# Altium footprint library SMD Library.PcbLib: 53 footprints (part 2 of 4)
Each footprint in its own frame and in the unit in brackets; x right, y up, seen from the top. Pads: shape width x height; smd on the part's side, far side on the other; paste and mask are expansions set on the pad; w line width, h text height; cw(c..) or ccw(c..) is an arc to the next point about the centre after c.
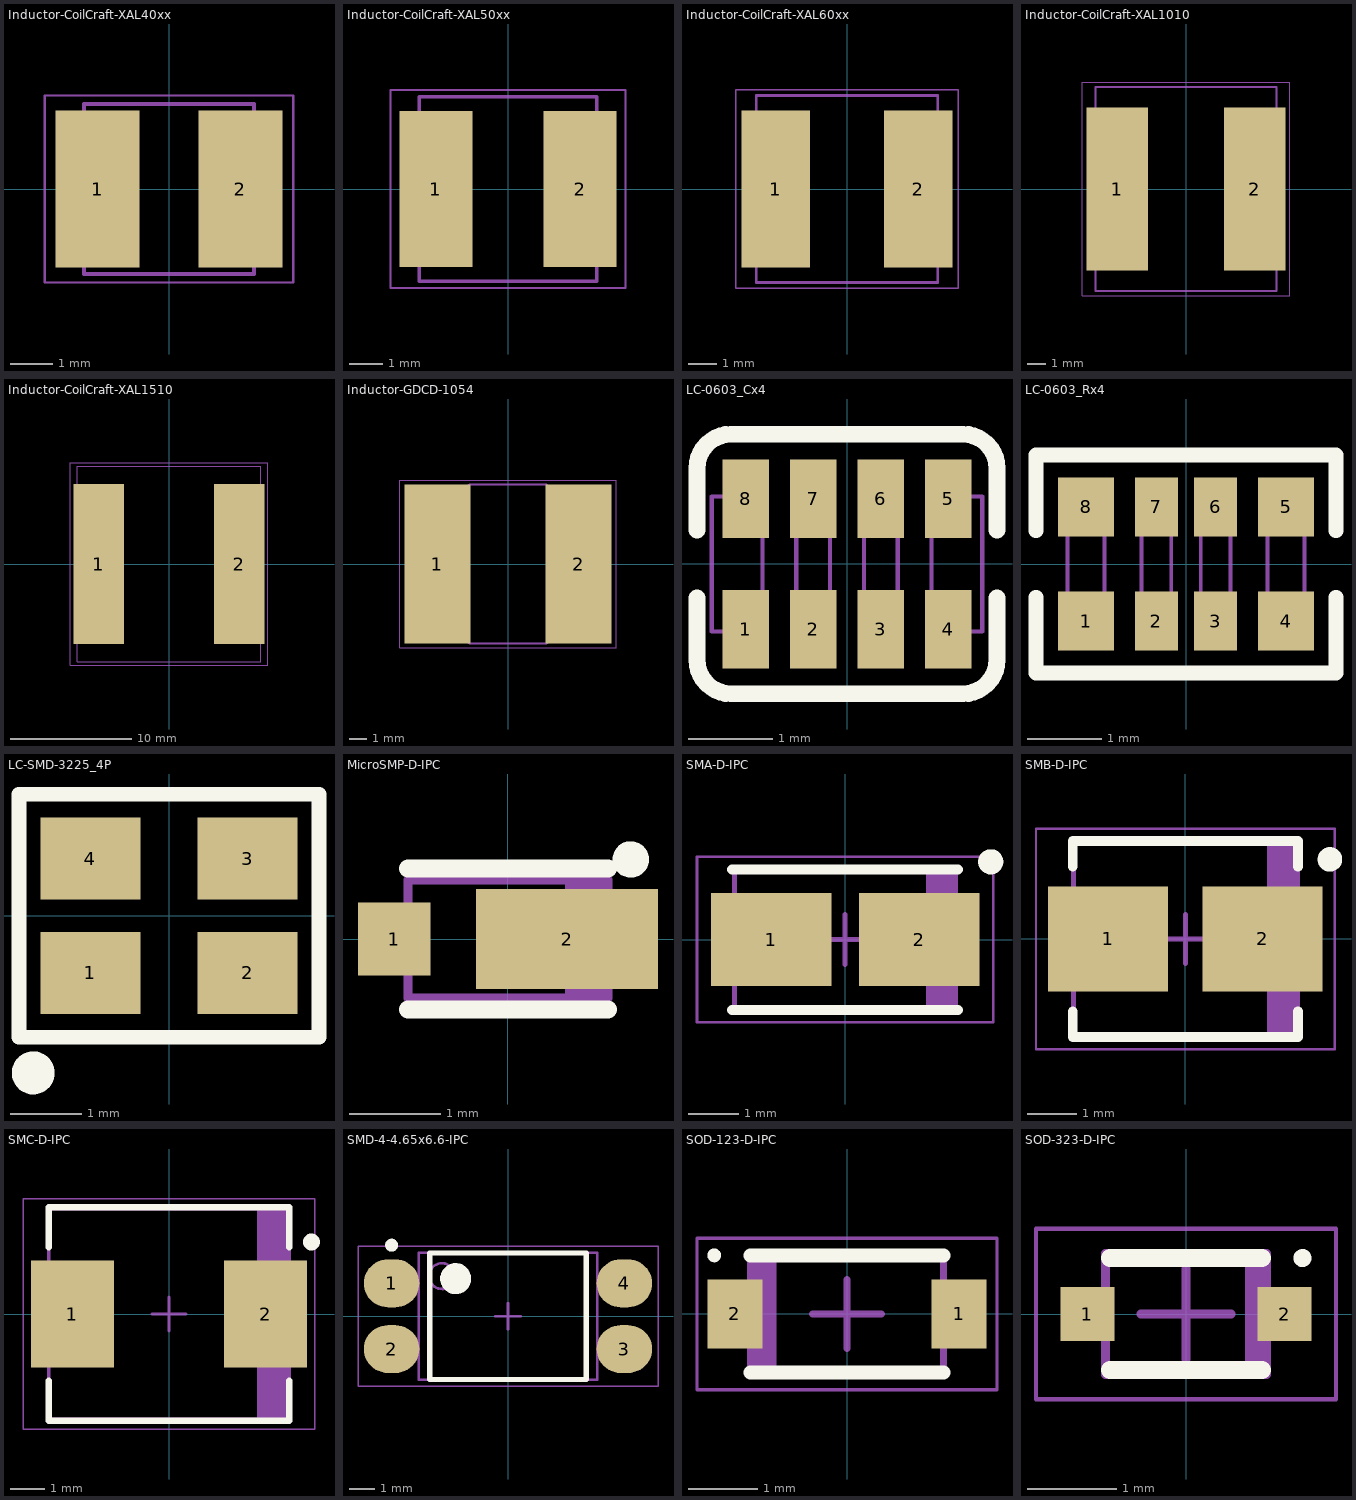
[diagram p1: the footprints below, top view; thin cyan lines are the x and y axes]

## Inductor-CoilCraft-XAL40xx [mm] "COILCRAFT - XAL40xx"
height 4.1
pads (2):
  rect 1.98x3.7 smd: 1(-1.68,0) 2(1.68,0)
Mechanical 13:
  lines w0.1: -2,-2 -2,2 2,2 2,-2 -2,-2
Mechanical 15:
  lines w0.05: -2.925,-2.2 -2.925,2.2 2.925,2.2 2.925,-2.2 -2.925,-2.2
3D body: height 4.1, standoff 0, extent -2,-2 2,2

## Inductor-CoilCraft-XAL50xx [mm] "COILCRAFT - XAL50xx"
height 5.1
pads (2):
  rect 2.18x4.64 smd: 1(-2.15,0) 2(2.15,0)
Mechanical 13:
  lines w0.1: -2.65,-2.75 -2.65,2.75 2.65,2.75 2.65,-2.75 -2.65,-2.75
Mechanical 15:
  lines w0.05: -3.5,-2.95 -3.5,2.95 3.5,2.95 3.5,-2.95 -3.5,-2.95
3D body: height 5.1, standoff 0, extent -2.65,-2.75 2.65,2.75

## Inductor-CoilCraft-XAL60xx [mm] "COILCRAFT - XAL60xx"
height 6.1
pads (2):
  rect 2.4x5.5 smd: 1(-2.5,0) 2(2.5,0)
Mechanical 13:
  lines w0.1: -3.175,-3.275 -3.175,3.275 3.175,3.275 3.175,-3.275 -3.175,-3.275
Mechanical 15:
  lines w0.05: -3.9,-3.475 3.9,-3.475 3.9,3.475 -3.9,3.475 -3.9,-3.475
3D body: height 6.1, standoff 0, extent -3.175,-3.275 3.175,3.275

## Inductor-CoilCraft-XAL1010 [mm] "COILCRAFT - XAL1010"
height 10
pads (2):
  rect 3.4x9 smd: 1(-3.8,0) 2(3.8,0)
Mechanical 13:
  lines w0.1: -5,-5.65 5,-5.65 5,5.65 -5,5.65 -5,-5.65
Mechanical 15:
  lines w0.05: -5.75,-5.9 -5.75,5.9 5.75,5.9 5.75,-5.9 -5.75,-5.9
3D body: height 6.1, standoff 0, extent -5,-5.65 5,5.65

## Inductor-CoilCraft-XAL1510 [mm] "COILCRAFT - XAL1510"
height 11
pads (2):
  rect 4.2x13.2 smd: 1(-5.8,0) 2(5.8,0)
Mechanical 13:
  lines w0.1: -7.6,-8.1 -7.6,8.1 7.6,8.1 7.6,-8.1 -7.6,-8.1
Mechanical 15:
  lines w0.05: -8.15,-8.35 8.15,-8.35 8.15,8.35 -8.15,8.35 -8.15,-8.35
3D body: height 11, standoff 0, extent -7.6,-8.1 7.6,8.1

## Inductor-GDCD-1054 [mm] "GDCD-1054"
height 5.4
pads (2):
  rect 3.75x9 smd: 1(-4,0) 2(4,0)
Mechanical 13:
  lines w0.1: -4.975,-0.499 ccw(c0,0) -2.176,-4.502 ; -4.975,0.499 cw(c-5,0) -4.972,-0.499 ; -4.975,0.5 cw(c0,0) -2.176,4.502 ; -2.176,-4.5 2.176,-4.5 ; -2.176,4.5 2.186,4.5 ; 2.176,-4.502 ccw(c0,0) 4.975,-0.499 cw(c5,0) 4.972,0.499 ; 2.186,4.497 cw(c0,0) 4.975,0.499
Mechanical 15:
  lines w0.05: -6.125,-4.75 6.125,-4.75 6.125,4.75 -6.125,4.75 -6.125,-4.75
3D body: height 4.4, standoff 1.4, extent -2.976,-2.994 3,2.994
3D body: height 1.4, standoff 0, extent -4.975,-4.502 4.975,4.502
3D body: height 5.4, standoff 4.4, extent -4.975,-4.502 4.975,4.502

## LC-0603_Cx4 [mm]
pads (8):
  rect 0.55x0.93 smd mask+0.051: 1(-1.2,-0.77) 2(-0.4,-0.77) 3(0.4,-0.77) 4(1.2,-0.77) 5(1.2,0.77) 6(0.4,0.77) 7(-0.4,0.77) 8(-1.2,0.77)
Top Overlay:
  lines w0.2: -1.775,-0.4 -1.775,-1.135 ccw(c-1.375,-1.135) -1.375,-1.535 1.375,-1.535 ccw(c1.375,-1.135) 1.775,-1.135 1.775,-0.4 ; -1.775,0.4 -1.775,1.135 cw(c-1.375,1.135) -1.375,1.535 1.375,1.535 cw(c1.375,1.135) 1.775,1.135 1.775,0.4
Mechanical 13:
  lines w0.05: -1.6,-0.8 -1,-0.8 -1,0.8 -1.6,0.8 -1.6,-0.8 ; -0.6,-0.8 -0.2,-0.8 -0.2,0.8 -0.6,0.8 -0.6,-0.8 ; 0.2,-0.8 0.6,-0.8 0.6,0.8 0.2,0.8 0.2,-0.8 ; 1,-0.8 1.6,-0.8 1.6,0.8 1,0.8 1,-0.8

## LC-0603_Rx4 [mm]
pads (8):
  rect 0.75x0.8 smd mask+0.051: 1(-1.35,-0.77) 4(1.35,-0.77) 5(1.35,0.77) 8(-1.35,0.77)
  rect 0.58x0.8 smd mask+0.051: 2(-0.4,-0.77) 3(0.4,-0.77) 6(0.4,0.77) 7(-0.4,0.77)
Top Overlay:
  lines w0.2: -2.025,-0.45 -2.025,-1.47 2.025,-1.47 2.025,-0.45 ; -2.025,0.45 -2.025,1.47 2.025,1.47 2.025,0.45
Mechanical 13:
  lines w0.05: -1.6,-0.8 -1.1,-0.8 -1.1,0.8 -1.6,0.8 -1.6,-0.8 ; -0.6,-0.8 -0.2,-0.8 -0.2,0.8 -0.6,0.8 -0.6,-0.8 ; 0.2,-0.8 0.6,-0.8 0.6,0.8 0.2,0.8 0.2,-0.8 ; 1.1,-0.8 1.6,-0.8 1.6,0.8 1.1,0.8 1.1,-0.8
3D body "SW3dPS-RN164P.STEP": height 0.55, standoff 0, extent -1.6,-0.8 1.6,0.8

## LC-SMD-3225_4P [mm]
pads (4):
  rect 1.4x1.15 smd: 1(-1.1,-0.8) 2(1.1,-0.8) 3(1.1,0.8) 4(-1.1,0.8)
Top Overlay:
  circle w0.3: c-1.9,-2.2 r0.15
  lines w0.203: -2.1,-1.7 2.1,-1.7 2.1,1.7 -2.1,1.7 -2.1,-1.7
3D body "User Library-3225-1.STEP": height 0.61, standoff 0, extent -1.6,-1.25 1.6,1.25

## MicroSMP-D-IPC [mm] "Molded Diode, 2-Leads, Body 2.20x1.30mm, IPC Medium Density"
height 0.75
pads (2):
  rect 0.8x0.8 smd: 1(-1.25,0)
  rect 2x1.1 smd: 2(0.65,0)
Top Overlay:
  circle w0.2: c1.35,0.875 r0.1
  lines w0.2: -1.1,-0.775 1.1,-0.775 ; -1.1,0.775 1.1,0.775
Mechanical 13:
  rectangle: 0.625,-0.65 1.1,0.65
  lines w0.1: -1.1,-0.65 -1.1,0.65 1.1,0.65 1.1,-0.65 -1.1,-0.65
3D body: height 0.75, standoff 0, extent -1.1,-0.65 1.1,0.65
3D body: height 0.75, standoff 0.75, extent 0.775,-0.65 0.9,0.65

## SMA-D-IPC [mm] "Molded Diode, 2-Leads, Body 4.15x2.60mm, IPC Medium Density"
height 2.4
pads (2):
  rect 2.4x1.85 smd: 1(-1.475,0) 2(1.475,0)
Top Overlay:
  circle w0.25: c2.9,1.55 r0.125
  lines w0.2: -2.25,-1.4 2.25,-1.4 ; -2.25,1.4 2.25,1.4
Mechanical 13:
  rectangle: 1.608,-1.375 2.2,1.375
  lines w0.1: -2.2,-1.375 2.2,-1.375 2.2,1.375 -2.2,1.375 -2.2,-1.375
Mechanical 15:
  lines w0.05: -2.95,-1.65 2.95,-1.65 2.95,1.65 -2.95,1.65 -2.95,-1.65
  lines w0.1: -0.5,0 0.5,0 ; 0,-0.5 0,0.5
3D body: height 2.4, standoff 0, extent -2.2,-1.375 2.2,1.375
3D body: height 2.45, standoff 2.4, extent 1.6,-1.375 1.775,1.375

## SMB-D-IPC [mm] "Molded Diode, 2-Leads, Body 4.31x3.62mm, IPC Medium Density"
height 2.5
pads (2):
  rect 2.45x2.15 smd: 1(-1.575,0) 2(1.575,0)
Top Overlay:
  circle w0.25: c2.95,1.625 r0.125
  lines w0.2: -2.3,-1.475 -2.3,-2 2.3,-2 2.3,-1.475 ; -2.3,1.475 -2.3,2 2.3,2 2.3,1.475
Mechanical 13:
  rectangle: 1.67,-1.97 2.285,1.97
  lines w0.1: -2.285,-1.97 -2.285,1.97 2.285,1.97 2.285,-1.97 -2.285,-1.97
Mechanical 15:
  lines w0.05: -3.05,-2.25 -3.05,2.25 3.05,2.25 3.05,-2.25 -3.05,-2.25
  lines w0.1: -0.5,0 0.5,0 ; 0,-0.5 0,0.5
3D body: height 2.5, standoff 0, extent -2.285,-1.97 2.285,1.97
3D body: height 2.55, standoff 2.5, extent 1.688,-1.97 1.863,1.97

## SMC-D-IPC [mm] "Molded Diode, 2-Leads, Body 6.85x5.90mm, IPC Medium Density"
height 2.6
pads (2):
  rect 2.45x3.15 smd: 1(-2.85,0) 2(2.85,0)
Top Overlay:
  circle w0.25: c4.2,2.125 r0.125
  lines w0.2: -3.55,-1.975 -3.55,-3.15 3.55,-3.15 3.55,-1.975 ; -3.55,1.975 -3.55,3.15 3.55,3.15 3.55,1.975
Mechanical 13:
  rectangle: 2.595,-3.1 3.55,3.1
  lines w0.1: -3.55,-3.1 -3.55,3.1 3.55,3.1 3.55,-3.1 -3.55,-3.1
Mechanical 15:
  lines w0.05: -4.3,-3.4 -4.3,3.4 4.3,3.4 4.3,-3.4 -4.3,-3.4
  lines w0.1: -0.5,0 0.5,0 ; 0,-0.5 0,0.5
3D body: height 2.6, standoff 0, extent -3.55,-3.1 3.55,3.1
3D body: height 2.65, standoff 2.6, extent 2.588,-3.1 2.763,3.1

## SMD-4-4.65x6.6-IPC [mm] "SMD, 4-Leads, Body 4.65x6.60mm, Pitch 2.54mm, IPC Medium Density"
height 5.59
pads (4):
  oval 2.15x1.85 smd: 1(-4.5,1.27) 2(-4.5,-1.27) 3(4.5,-1.27) 4(4.5,1.27)
Top Overlay:
  circle w0.6: c-2.025,1.45 r0.3
  circle w0.25: c-4.5,2.745 r0.125
  lines w0.2: -3.025,-2.45 3.025,-2.45 3.025,2.45 -3.025,2.45 -3.025,-2.45
Mechanical 13:
  circle w0.1: c-2.55,1.55 r0.5
  lines w0.1: -3.45,-2.45 3.45,-2.45 3.45,2.45 -3.45,2.45 -3.45,-2.45
Mechanical 15:
  lines w0.05: -5.8,-2.7 5.8,-2.7 5.8,2.7 -5.8,2.7 -5.8,-2.7
  lines w0.1: -0.5,0 0.5,0 ; 0,-0.5 0,0.5
3D body: height 5.59, standoff 0.1, extent -3.45,-2.45 3.45,2.45

## SOD-123-D-IPC [mm] "Molded Diode, 2-Leads, Body 2.70x1.60mm, IPC Medium Density"
height 1.25
pads (2):
  rect 0.8x1 smd: 1(1.625,0) 2(-1.625,0)
Top Overlay:
  circle w0.1: c-1.925,0.85 r0.05
  lines w0.2: -1.4,-0.85 1.4,-0.85 ; -1.4,0.85 1.4,0.85
Mechanical 13:
  rectangle: -1.4,-0.85 -1.023,0.85
  lines w0.1: -1.4,-0.85 -1.4,0.85 1.4,0.85 1.4,-0.85 -1.4,-0.85
Mechanical 15:
  lines w0.05: -2.175,-1.1 -2.175,1.1 2.175,1.1 2.175,-1.1 -2.175,-1.1
  lines w0.1: -0.5,0 0.5,0 ; 0,-0.5 0,0.5
3D body: height 1.25, standoff 0, extent -1.4,-0.85 1.4,0.85

## SOD-323-D-IPC [mm] "Molded Diode, 2-Leads, Body 1.70x1.25mm, IPC Medium Density"
height 1.1
pads (2):
  rect 0.6x0.6 smd: 1(-1.1,0) 2(1.1,0)
Top Overlay:
  circle w0.1: c1.3,0.625 r0.05
  lines w0.2: -0.85,-0.625 0.85,-0.625 ; -0.85,0.625 0.85,0.625
Mechanical 13:
  rectangle: 0.658,-0.675 0.9,0.675
  lines w0.1: -0.9,-0.675 0.9,-0.675 0.9,0.675 -0.9,0.675 -0.9,-0.675
Mechanical 15:
  lines w0.05: -1.675,-0.95 1.675,-0.95 1.675,0.95 -1.675,0.95 -1.675,-0.95
  lines w0.1: -0.5,0 0.5,0 ; 0,-0.5 0,0.5
3D body: height 1.1, standoff 0, extent -0.9,-0.675 0.9,0.675